# Altium schematic symbol library QUTMS_OpAmpLibrary.SchLib: 6 symbols
Pins are listed as number, name and electrical type; pins without a type are passive.

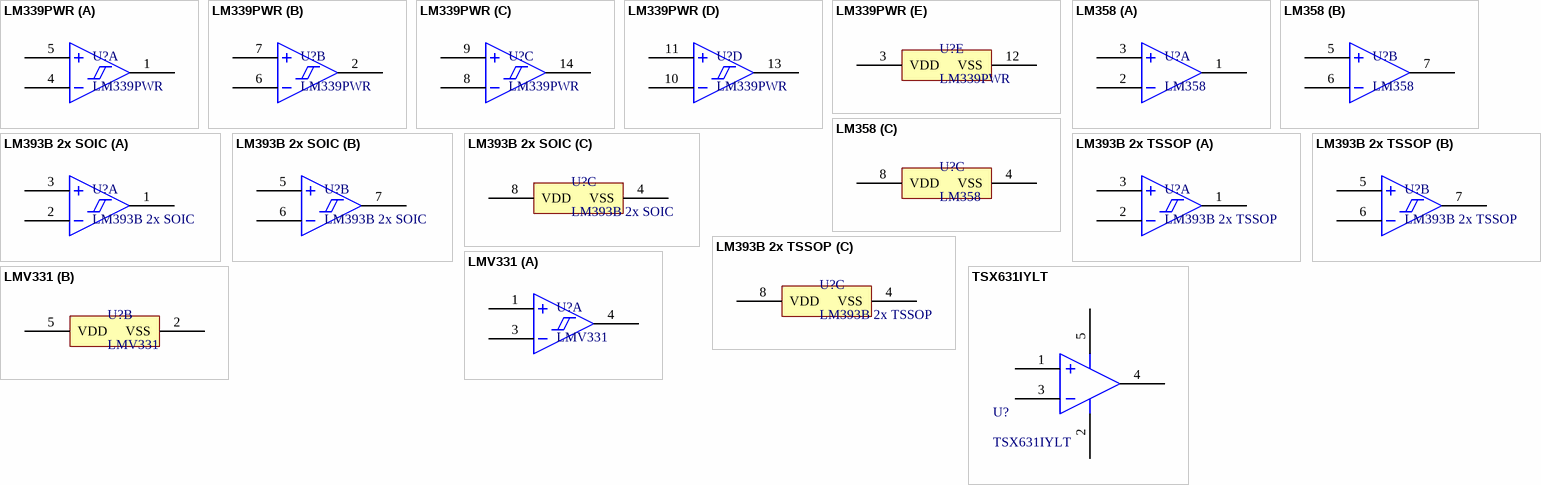
[diagram p0: symbols LM339PWR to TSX631IYLT]

## LM339PWR
designator U?
Comparator Differential CMOS, MOS, Open-Collector, TTL 14-TSSOP
footprint TSSOP-14
part A pins: 1 OUT1, 4 IN1-, 5 IN1+
part B pins: 2 OUT2, 6 IN2-, 7 IN2+
part C pins: 8 IN3-, 9 IN3+, 14 OUT3
part D pins: 10 IN4-, 11 IN4+, 13 OUT4
part E pins: 3 VDD, 12 VSS

## LM358
designator U?
General Purpose Amplifier 2 Circuit 8-SOIC
footprint SOIC-8
part A pins: 1 OUT1, 2 IN1-, 3 IN1+
part B pins: 5 IN2+, 6 IN2-, 7 OUT1
part C pins: 4 VSS, 8 VDD

## LM393B 2x SOIC
designator U?
Comparator General Purpose Open-Collector 8-SOIC
footprint SOIC-8
part A pins: 1 OUT1, 2 IN1-, 3 IN1+
part B pins: 5 IN2+, 6 IN2-, 7 OUT1
part C pins: 4 VSS, 8 VDD

## LM393B 2x TSSOP
designator U?
Comparator Differential CMOS, MOS, Open-Drain, TTL 8-TSSOP
footprint TSSOP-8
part A pins: 1 OUT1, 2 IN1-, 3 IN1+
part B pins: 5 IN2+, 6 IN2-, 7 OUT1
part C pins: 4 VSS, 8 VDD

## LMV331
designator U?
Comparator General Purpose Open Collector SOT-23-5
footprint SOT-23-5
part A pins: 1 IN1+, 3 IN1-, 4 OUT1
part B pins: 2 VSS, 5 VDD

## TSX631IYLT
designator U?
General Purpose Amplifier 1 Circuit Rail-to-Rail SOT-23-5
footprint SOT-23-5
pins: 1, 2, 3, 4, 5